# EAGLE library part KLEMME-2_16-BRUECKE (library e-klemmen)
Klemme 16-pol. mit Brückenhinweis
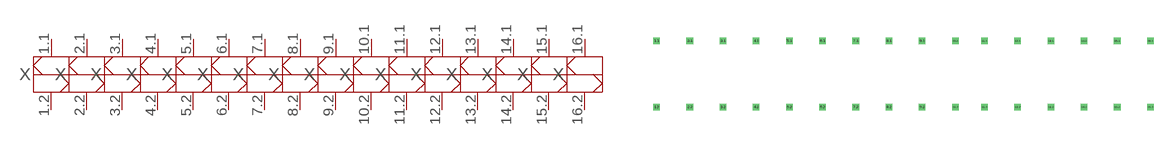
[diagram p81: symbol with the pads of KLEMME-2_16-BRUECKE; footprint KLEMME-2_16-BRUECKE]

Designator prefix X; gates 1=KLEMME-2_1-BRUECKE 2=KLEMME-2_2-BRUECKE 3=KLEMME-2_3-BRUECKE 4=KLEMME-2_4-BRUECKE 5=KLEMME-2_5-BRUECKE 6=KLEMME-2_6-BRUECKE 7=KLEMME-2_7-BRUECKE 8=KLEMME-2_8-BRUECKE 9=KLEMME-2_9-BRUECKE 10=KLEMME-2_10-BRUECKE 11=KLEMME-2_11-BRUECKE 12=KLEMME-2_12-BRUECKE 13=KLEMME-2_13-BRUECKE 14=KLEMME-2_14-BRUECKE 15=KLEMME-2_15-BRUECKE 16=KLEMME-2_16-BRUECKE

## KLEMME-2_16-BRUECKE  [KLEMME-2_16-BRUECKE]
1.1  1:1  pas
1.2  1:2  pas
2.1  2:1  pas
2.2  2:2  pas
3.1  3:1  pas
3.2  3:2  pas
4.1  4:1  pas
4.2  4:2  pas
5.1  5:1  pas
5.2  5:2  pas
6.1  6:1  pas
6.2  6:2  pas
7.1  7:1  pas
7.2  7:2  pas
8.1  8:1  pas
8.2  8:2  pas
9.1  9:1  pas
9.2  9:2  pas
10.1  10:1  pas
10.2  10:2  pas
11.1  11:1  pas
11.2  11:2  pas
12.1  12:1  pas
12.2  12:2  pas
13.1  13:1  pas
13.2  13:2  pas
14.1  14:1  pas
14.2  14:2  pas
15.1  15:1  pas
15.2  15:2  pas
16.1  16:1  pas
16.2  16:2  pas

## Footprint KLEMME-2_16-BRUECKE (pad centres in mm)
Dummy
drill 0.5 pad 1 square: 1.1 0,5.08; 1.2 0,-5.08; 2.1 5.08,5.08; 2.2 5.08,-5.08; 3.1 10.16,5.08; 3.2 10.16,-5.08; 4.1 15.24,5.08; 4.2 15.24,-5.08; 5.1 20.32,5.08; 5.2 20.32,-5.08; 6.1 25.4,5.08; 6.2 25.4,-5.08; 7.1 30.48,5.08; 7.2 30.48,-5.08; 8.1 35.56,5.08; 8.2 35.56,-5.08; 9.1 40.64,5.08; 9.2 40.64,-5.08; 10.1 45.72,5.08; 10.2 45.72,-5.08; 11.1 50.165,5.08; 11.2 50.165,-5.08; 12.1 55.245,5.08; 12.2 55.245,-5.08; 13.1 60.325,5.08; 13.2 60.325,-5.08; 14.1 65.405,5.08; 14.2 65.405,-5.08; 15.1 70.485,5.08; 15.2 70.485,-5.08; 16.1 75.565,5.08; 16.2 75.565,-5.08